# Altium schematic symbol library FUSE BLADE.Schlib: 1 symbol
Pins are listed as number, name and electrical type; pins without a type are passive.

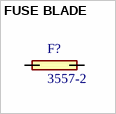
[diagram p0: symbol FUSE BLADE]

## FUSE BLADE
designator F?, comment 3557-2
Fuse Block 30A 500V 1 Circuit Blade Through Hole
pins: 1 1A, 2 1B, 3 2A, 4 2B